# EAGLE library part ESP32-S3-WROOM-1-N8 (library ESP32)
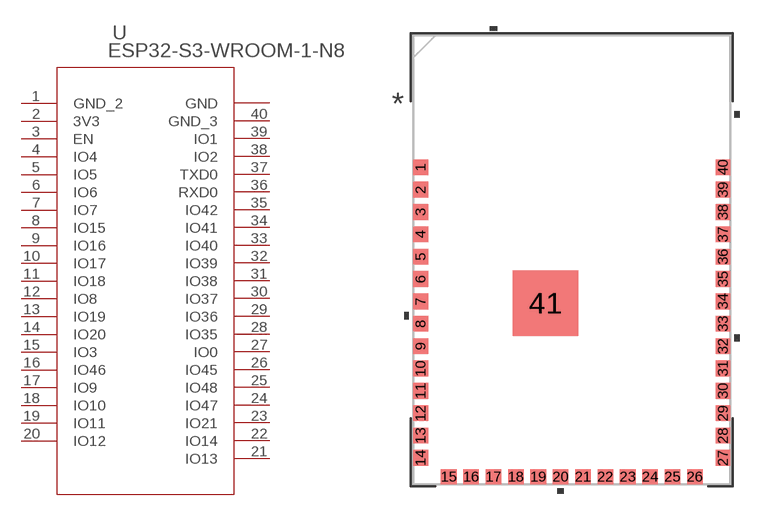
[diagram p0: symbol with the pads of ESP32-S3-WROOM-1-N8_EXP; footprint ESP32-S3-WROOM-1-N8_EXP]

Designator prefix U

## ESP32-S3-WROOM-1-N8 (COPYRIGHT: Copyright (C) 2023 Ultra Librarian. All rights reserved.; DIGI-KEY_PART_NUMBER_1: 1965-ESP32-S3-WROOM-1-N8TR-ND; DIGI-KEY_PART_NUMBER_2: 1965-ESP32-S3-WROOM-1-N8CT-ND; DIGI-KEY_PART_NUMBER_3: 1965-ESP32-S3-WROOM-1-N8DKR-ND; MANUFACTURER_PART_NUMBER: ESP32-S3-WROOM-1-N8; MFR_NAME: Espressif Systems)  [ESP32-S3-WROOM-1-N8_EXP]
1  GND_2  pas
2  3V3  pwr
3  EN  in
4  IO4
5  IO5
6  IO6
7  IO7
8  IO15
9  IO16
10  IO17
11  IO18
12  IO8
13  IO19
14  IO20
15  IO3
16  IO46
17  IO9
18  IO10
19  IO11
20  IO12
21  IO13
22  IO14
23  IO21
24  IO47
25  IO48
26  IO45
27  IO0
28  IO35
29  IO36
30  IO37
31  IO38
32  IO39
33  IO40
34  IO41
35  IO42
36  RXD0
37  TXD0
38  IO2
39  IO1
40  GND_3  pas

## Footprint ESP32-S3-WROOM-1-N8_EXP (pad centres in mm)
smd 0.838 x 0.889: 1 -8.581,5.254; 2 -8.581,3.984; 3 -8.581,2.714; 4 -8.581,1.444; 5 -8.581,0.174; 6 -8.581,-1.096; 7 -8.581,-2.366; 8 -8.581,-3.636; 9 -8.581,-4.906; 10 -8.581,-6.176; 11 -8.581,-7.446; 12 -8.581,-8.716; 13 -8.581,-9.986; 14 -8.581,-11.256; 27 8.581,-11.256; 28 8.581,-9.986; 29 8.581,-8.716; 30 8.581,-7.446; 31 8.581,-6.176; 32 8.581,-4.906; 33 8.581,-3.636; 34 8.581,-2.366; 35 8.581,-1.096; 36 8.581,0.174; 37 8.581,1.444; 38 8.581,2.714; 39 8.581,3.984; 40 8.581,5.254
smd 0.889 x 0.838: 15 -6.985,-12.331; 16 -5.715,-12.331; 17 -4.445,-12.331; 18 -3.175,-12.331; 19 -1.905,-12.331; 20 -0.635,-12.331; 21 0.635,-12.331; 22 1.905,-12.331; 23 3.175,-12.331; 24 4.445,-12.331; 25 5.715,-12.331; 26 6.985,-12.331
smd 3.708 x 3.708: 41 -1.496,-2.461